# EAGLE library part TFP401PZP (library TFP401PZP)
165-MHz TMDS DVI receiver/deserializer & Panelbus integrated circuit Source: Datasheet <http://www.ti.com/lit/gpn/tfp401>
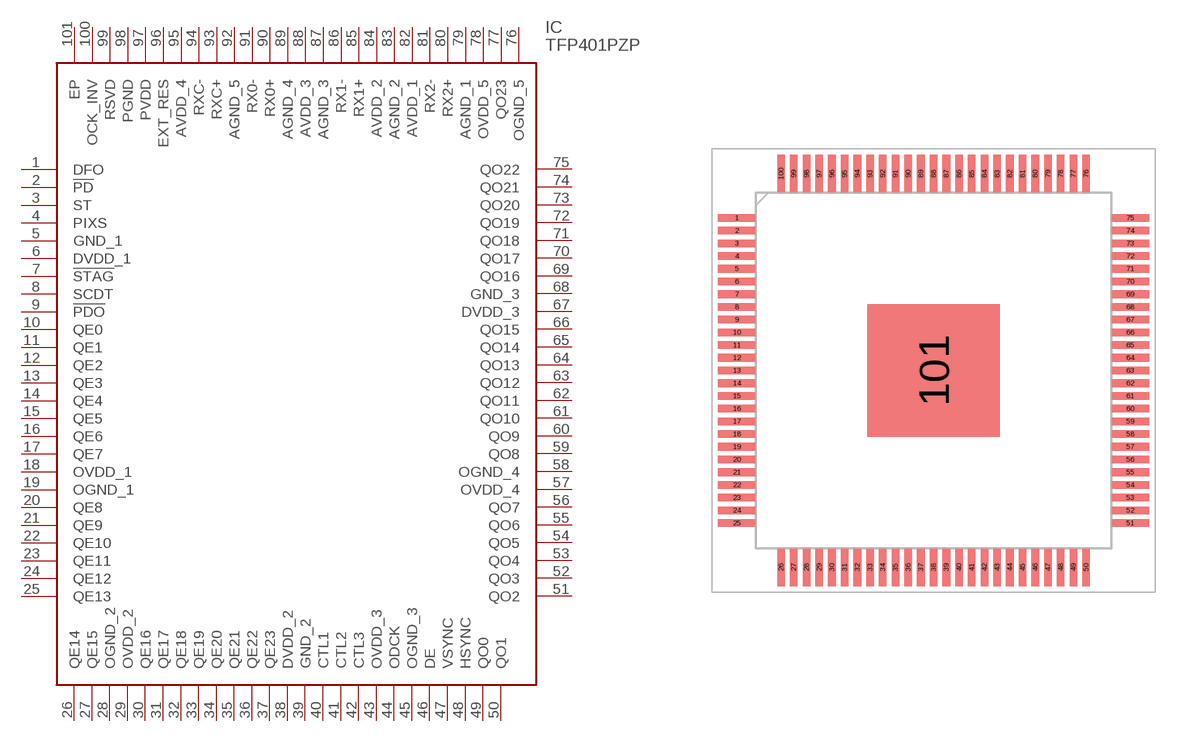
[diagram p0: symbol with the pads of QFP50P1600X1600X120-101N; footprint QFP50P1600X1600X120-101N]

Designator prefix IC

## TFP401PZP (Arrow_Part_Number: TFP401PZP; Arrow_Price-Stock: https://www.arrow.com/en/products/tfp401pzp/texas-instruments?utm_currency=USD&region=nac; Description: 165-MHz TMDS DVI receiver/deserializer & Panelbus integrated circuit; Height: 1.2mm; Manufacturer_Name: Texas Instruments; Manufacturer_Part_Number: TFP401PZP; Mouser_Part_Number: 595-TFP401PZP; Mouser_Price-Stock: https://www.mouser.co.uk/ProductDetail/Texas-Instruments/TFP401PZP?qs=bvCpHSZmQjmzyJ9p8ABYPA%3D%3D)  [QFP50P1600X1600X120-101N]
1  DFO
2  !PD
3  ST
4  PIXS
5  GND_1
6  DVDD_1
7  !STAG
8  SCDT
9  !PDO
10  QE0
11  QE1
12  QE2
13  QE3
14  QE4
15  QE5
16  QE6
17  QE7
18  OVDD_1
19  OGND_1
20  QE8
21  QE9
22  QE10
23  QE11
24  QE12
25  QE13
26  QE14
27  QE15
28  OGND_2
29  OVDD_2
30  QE16
31  QE17
32  QE18
33  QE19
34  QE20
35  QE21
36  QE22
37  QE23
38  DVDD_2
39  GND_2
40  CTL1
41  CTL2
42  CTL3
43  OVDD_3
44  ODCK
45  OGND_3
46  DE
47  VSYNC
48  HSYNC
49  QO0
50  QO1
51  QO2
52  QO3
53  QO4
54  QO5
55  QO6
56  QO7
57  OVDD_4
58  OGND_4
59  QO8
60  QO9
61  QO10
62  QO11
63  QO12
64  QO13
65  QO14
66  QO15
67  DVDD_3
68  GND_3
69  QO16
70  QO17
71  QO18
72  QO19
73  QO20
74  QO21
75  QO22
76  OGND_5
77  QO23
78  OVDD_5
79  AGND_1
80  RX2+
81  RX2-
82  AVDD_1
83  AGND_2
84  AVDD_2
85  RX1+
86  RX1-
87  AGND_3
88  AVDD_3
89  AGND_4
90  RX0+
91  RX0-
92  AGND_5
93  RXC+
94  RXC-
95  AVDD_4
96  EXT_RES
97  PVDD
98  PGND
99  RSVD
100  OCK_INV
101  EP

## Footprint QFP50P1600X1600X120-101N (pad centres in mm)
PZP (S-PQFP-G100)_1
smd 1.475 x 0.3: 1 -7.738,6; 2 -7.738,5.5; 3 -7.738,5; 4 -7.738,4.5; 5 -7.738,4; 6 -7.738,3.5; 7 -7.738,3; 8 -7.738,2.5; 9 -7.738,2; 10 -7.738,1.5; 11 -7.738,1; 12 -7.738,0.5; 13 -7.738,0; 14 -7.738,-0.5; 15 -7.738,-1; 16 -7.738,-1.5; 17 -7.738,-2; 18 -7.738,-2.5; 19 -7.738,-3; 20 -7.738,-3.5; 21 -7.738,-4; 22 -7.738,-4.5; 23 -7.738,-5; 24 -7.738,-5.5; 25 -7.738,-6; 51 7.738,-6; 52 7.738,-5.5; 53 7.738,-5; 54 7.738,-4.5; 55 7.738,-4; 56 7.738,-3.5; 57 7.738,-3; 58 7.738,-2.5; 59 7.738,-2; 60 7.738,-1.5; 61 7.738,-1; 62 7.738,-0.5; 63 7.738,0; 64 7.738,0.5; 65 7.738,1; 66 7.738,1.5; 67 7.738,2; 68 7.738,2.5; 69 7.738,3; 70 7.738,3.5; 71 7.738,4; 72 7.738,4.5; 73 7.738,5; 74 7.738,5.5; 75 7.738,6
smd 0.3 x 1.475: 26 -6,-7.738; 27 -5.5,-7.738; 28 -5,-7.738; 29 -4.5,-7.738; 30 -4,-7.738; 31 -3.5,-7.738; 32 -3,-7.738; 33 -2.5,-7.738; 34 -2,-7.738; 35 -1.5,-7.738; 36 -1,-7.738; 37 -0.5,-7.738; 38 0,-7.738; 39 0.5,-7.738; 40 1,-7.738; 41 1.5,-7.738; 42 2,-7.738; 43 2.5,-7.738; 44 3,-7.738; 45 3.5,-7.738; 46 4,-7.738; 47 4.5,-7.738; 48 5,-7.738; 49 5.5,-7.738; 50 6,-7.738; 76 6,7.738; 77 5.5,7.738; 78 5,7.738; 79 4.5,7.738; 80 4,7.738; 81 3.5,7.738; 82 3,7.738; 83 2.5,7.738; 84 2,7.738; 85 1.5,7.738; 86 1,7.738; 87 0.5,7.738; 88 0,7.738; 89 -0.5,7.738; 90 -1,7.738; 91 -1.5,7.738; 92 -2,7.738; 93 -2.5,7.738; 94 -3,7.738; 95 -3.5,7.738; 96 -4,7.738; 97 -4.5,7.738; 98 -5,7.738; 99 -5.5,7.738; 100 -6,7.738
smd 5.2 x 5.2: 101 0,0